# Altium schematic symbol library Schlib1.SchLib: 1 symbol
Pins are listed as number, name and electrical type; pins without a type are passive.

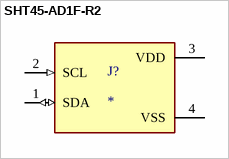
[diagram p0: symbol SHT45-AD1F-R2]

## SHT45-AD1F-R2
designator J?
Digital Relative Humidity Temperature Sensor, Â±1.0 %RH, Â±0.1 Â°C, Ultra-Low-Power, with filtermembrane; MP: SHT45-AD1F-R2; MF: Sensirion; Price: None; Purchase-URL: https://pricing.snapeda.com/search/part/SHT45-AD1F-R2/?ref=eda; Check_prices: https://www.snapeda.com/parts/SHT45-AD1F-R2/Sensirion/view-part/?ref=eda; SnapEDA_Link: https://www.snapeda.com/parts/SHT45-AD1F-R2/Sensirion/view-part/?ref=snap; Availability: In Stock; Package: Package; Value: *
footprint SHT4X
pins: 1 SDA (io), 2 SCL (in), 3 VDD (power), 4 VSS (power)